# EAGLE library part 1X10-EDGE (library ESPstack)
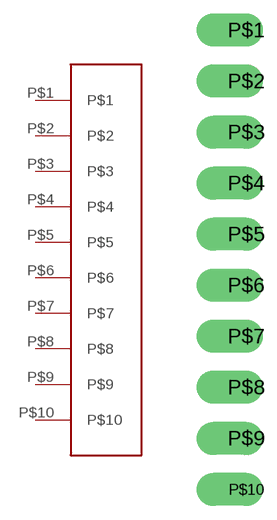
[diagram p3: symbol with the pads of 1X10-EDGE; footprint 1X10-EDGE]

Designator prefix -

## 1X10-EDGE  [1X10-EDGE]
P$1  P$1
P$2  P$2
P$3  P$3
P$4  P$4
P$5  P$5
P$6  P$6
P$7  P$7
P$8  P$8
P$9  P$9
P$10  P$10

## Footprint 1X10-EDGE (pad centres in mm)
drill 1.1 pad 1.27 offset: P$1 0,11.43
drill 1.1 pad 1.422 offset: P$2 0,8.89; P$3 0,6.35; P$4 0,3.81; P$5 0,1.27; P$6 0,-1.27; P$7 0,-3.81; P$8 0,-6.35; P$9 0,-8.89; P$10 0,-11.43